# Altium footprint library CH9344.PcbLib: 1 footprints
Each footprint in its own frame and in the unit in brackets; x right, y up, seen from the top. Pads: shape width x height; smd on the part's side, far side on the other; paste and mask are expansions set on the pad; w line width, h text height; cw(c..) or ccw(c..) is an arc to the next point about the centre after c.
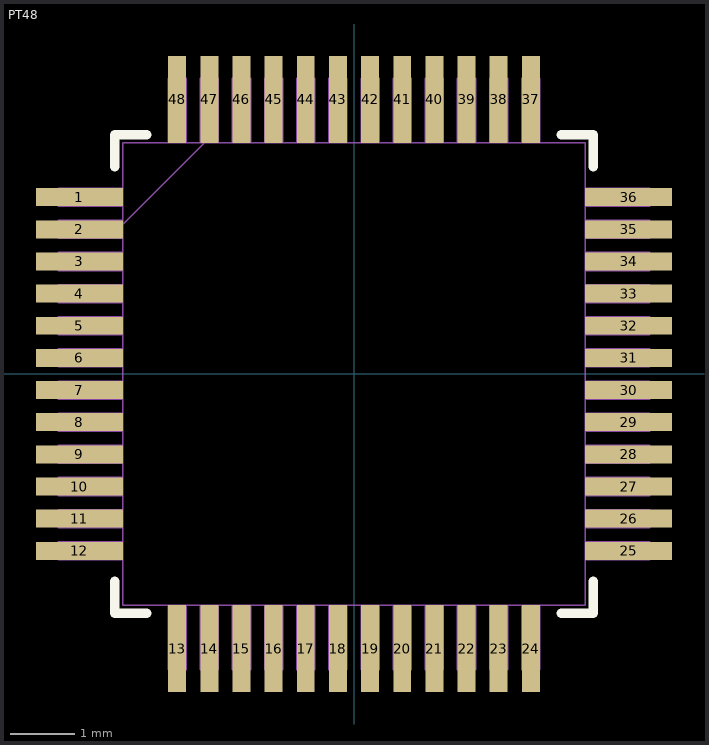
[diagram p0: the footprint, top view; thin cyan lines are the x and y axes]

## PT48 [mil]
pads (48):
  rect 53.28x11 smd paste+0 mask+0: 1(-168.14,108.27) 2(-168.14,88.58) 3(-168.14,68.9) 4(-168.14,49.21) 5(-168.14,29.53) 6(-168.14,9.84) 7(-168.14,-9.84) 8(-168.14,-29.53) 9(-168.14,-49.21) 10(-168.14,-68.9) 11(-168.14,-88.58) 12(-168.14,-108.27) 25(168.14,-108.27) 26(168.14,-88.58) 27(168.14,-68.9) 28(168.14,-49.21) 29(168.14,-29.53) 30(168.14,-9.84) 31(168.14,9.84) 32(168.14,29.53) 33(168.14,49.21) 34(168.14,68.9) 35(168.14,88.58) 36(168.14,108.27)
  rect 11x53.28 smd paste+0 mask+0: 13(-108.27,-168.14) 14(-88.58,-168.14) 15(-68.9,-168.14) 16(-49.21,-168.14) 17(-29.53,-168.14) 18(-9.84,-168.14) 19(9.84,-168.14) 20(29.53,-168.14) 21(49.21,-168.14) 22(68.9,-168.14) 23(88.58,-168.14) 24(108.27,-168.14) 37(108.27,168.14) 38(88.58,168.14) 39(68.9,168.14) 40(49.21,168.14) 41(29.53,168.14) 42(9.84,168.14) 43(-9.84,168.14) 44(-29.53,168.14) 45(-49.21,168.14) 46(-68.9,168.14) 47(-88.58,168.14) 48(-108.27,168.14)
Top Overlay:
  lines w6: -146.5,-126.87 -146.5,-146.5 -126.87,-146.5 ; -146.5,126.87 -146.5,146.5 -126.87,146.5 ; 126.87,-146.5 146.5,-146.5 146.5,-126.87 ; 126.87,146.5 146.5,146.5 146.5,126.87
  text "." at -180,175 h50
Mechanical 13:
  drawing of 197 lines, arcs and shapes, not listed
3D body "PT48.step": height 63.11, standoff 0, extent -180.98,-180.98 180.98,180.98